# Altium schematic symbol library CLOSED_LOOP_BUFFER.SchLib: 1 symbol
Pins are listed as number, name and electrical type; pins without a type are passive.

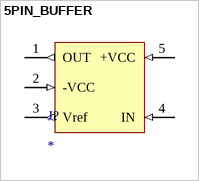
[diagram p0: symbol 5PIN_BUFFER]

## 5PIN_BUFFER
designator J?
Number of Positions: 5; Mounting Type: Surface Mount
footprint HIGH_SPEED_BUFFER_SOT23-5 (SOT23, 5-Leads, Body 2.90x2.80mm, Pitch 0.95mm, IPC Medium Density)
pins: 1 OUT (out), 2 -VCC (in), 3 Vref (out), 4 IN (in), 5 +VCC (in)